# EAGLE library part 750310744 (library WE-POE+)
WE-PoE+ Power over Ethernet Plus Transformer Characteristics Designed to meet 30 W PoE+ objectives of IEEE802.3at Frequency range: 250–400 kHz Input voltage range: 36–72 V 1.5 kV Hipot test between primary and secondary Operating temperature: –40 °C to +125 °C (incl. self-heating) Applications PoE+ powered devices IP Phones WLAN Access Points Security cameras <https://www.we-online.com/components/media/o14840v209%20Family_WE-POE%2B.jpg> Details see: www.we-online.com/en/components/products/WE-POE-PLUS <www.we-online.com/catalog/WE-POE-PLUS/?utm_source=eagle_model&utm_medium=description_link&utm_campaign=eisos_eagle> Updated by Ella 2024-01-29 2024(C) Wurth Elektronik
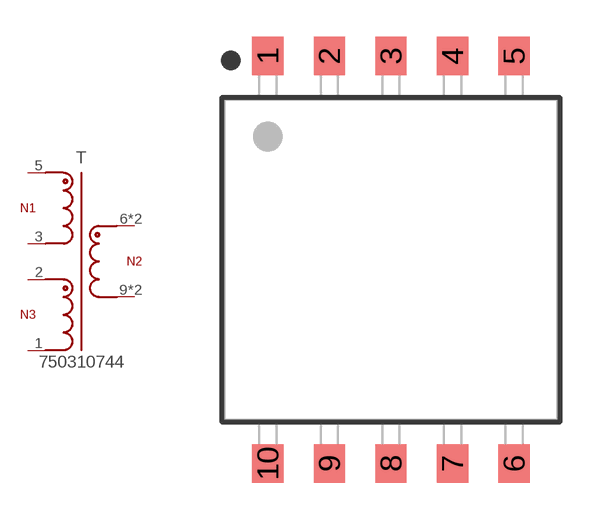
[diagram p16: symbol with the pads of WE-POE+_EP13_PADL1.55W1.27; footprint WE-POE+_EP13_PADL1.55W1.27]

Designator prefix T

## 750310744 (DATASHEET-URL: https://www.we-online.com/redexpert/spec/750310744?ae; HEIGHT: 12.7mm; IO1: 5A; L: 38uH; LENGTH: 13.46mm; MOUNT: SMT; PART-NUMBER: 750310744; RDC1: 0.1ohm; RDC2: 0.0045ohm; RDC3: 0.255ohm; SIZE: EP13; TURNS-RATIO: 5:1:2.5; VALUE: 38uH; VAUX: 12V; VERSION: CCM Flyback; VIN: 37 - 57 V (DC); VO1: 5V; VT: 1500VAC; WIDTH: 17.75mm)  [WE-POE+_EP13_PADL1.55W1.27]
1  1  pas
2  2  pas
3  3  pas
5  5  pas
6  6  pas
7  6  pas
9  10  pas
10  10  pas

## Footprint WE-POE+_EP13_PADL1.55W1.27 (pad centres in mm)
WE-PoE Power over Ethernet Transformer EP13, SMT, 10Pins
smd 1.27 x 1.55: 1 -5,8.275; 2 -2.5,8.275; 3 0,8.275; 4 2.5,8.275; 5 5,8.275; 6 5,-8.275; 7 2.5,-8.275; 8 0,-8.275; 9 -2.5,-8.275; 10 -5,-8.275